# EAGLE library part SI1016CX-T1-GE3 (library SI1016CX-T1-GE3)
Mosfet Array 20V 220mW Surface Mount SC-89 (SOT-563F) Source: Datasheet <https://www.vishay.com/docs/67535/si1016cx.pdf>
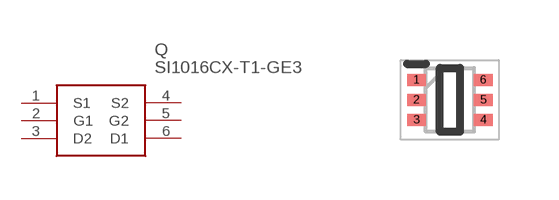
[diagram p0: symbol with the pads of SOTFL50P160X60-6N; footprint SOTFL50P160X60-6N]

Designator prefix Q

## SI1016CX-T1-GE3 (Arrow_Part_Number: SI1016CX-T1-GE3; Arrow_Price-Stock: https://www.arrow.com/en/products/si1016cx-t1-ge3/vishay?region=nac; Description: Mosfet Array 20V 220mW Surface Mount SC-89 (SOT-563F); Height: 0.6mm; Manufacturer_Name: Vishay; Manufacturer_Part_Number: SI1016CX-T1-GE3; Mouser_Part_Number: 78-SI1016CX-T1-GE3; Mouser_Price-Stock: https://www.mouser.co.uk/ProductDetail/Vishay-Semiconductors/SI1016CX-T1-GE3?qs=ROh%252BA47s9d23BjzCxwa0qg%3D%3D)  [SOTFL50P160X60-6N]
1  S1
2  G1
3  D2
4  S2
5  G2
6  D1

## Footprint SOTFL50P160X60-6N (pad centres in mm)
SC-89 6-Leads (SOT-563F)
smd 0.47 x 0.3: 1 -0.835,0.5; 2 -0.835,0; 3 -0.835,-0.5; 4 0.835,-0.5; 5 0.835,0; 6 0.835,0.5